# Altium footprint library Passive.PcbLib: 21 footprints (part 1 of 2)
Each footprint in its own frame and in the unit in brackets; x right, y up, seen from the top. Pads: shape width x height; smd on the part's side, far side on the other; paste and mask are expansions set on the pad; w line width, h text height; cw(c..) or ccw(c..) is an arc to the next point about the centre after c.
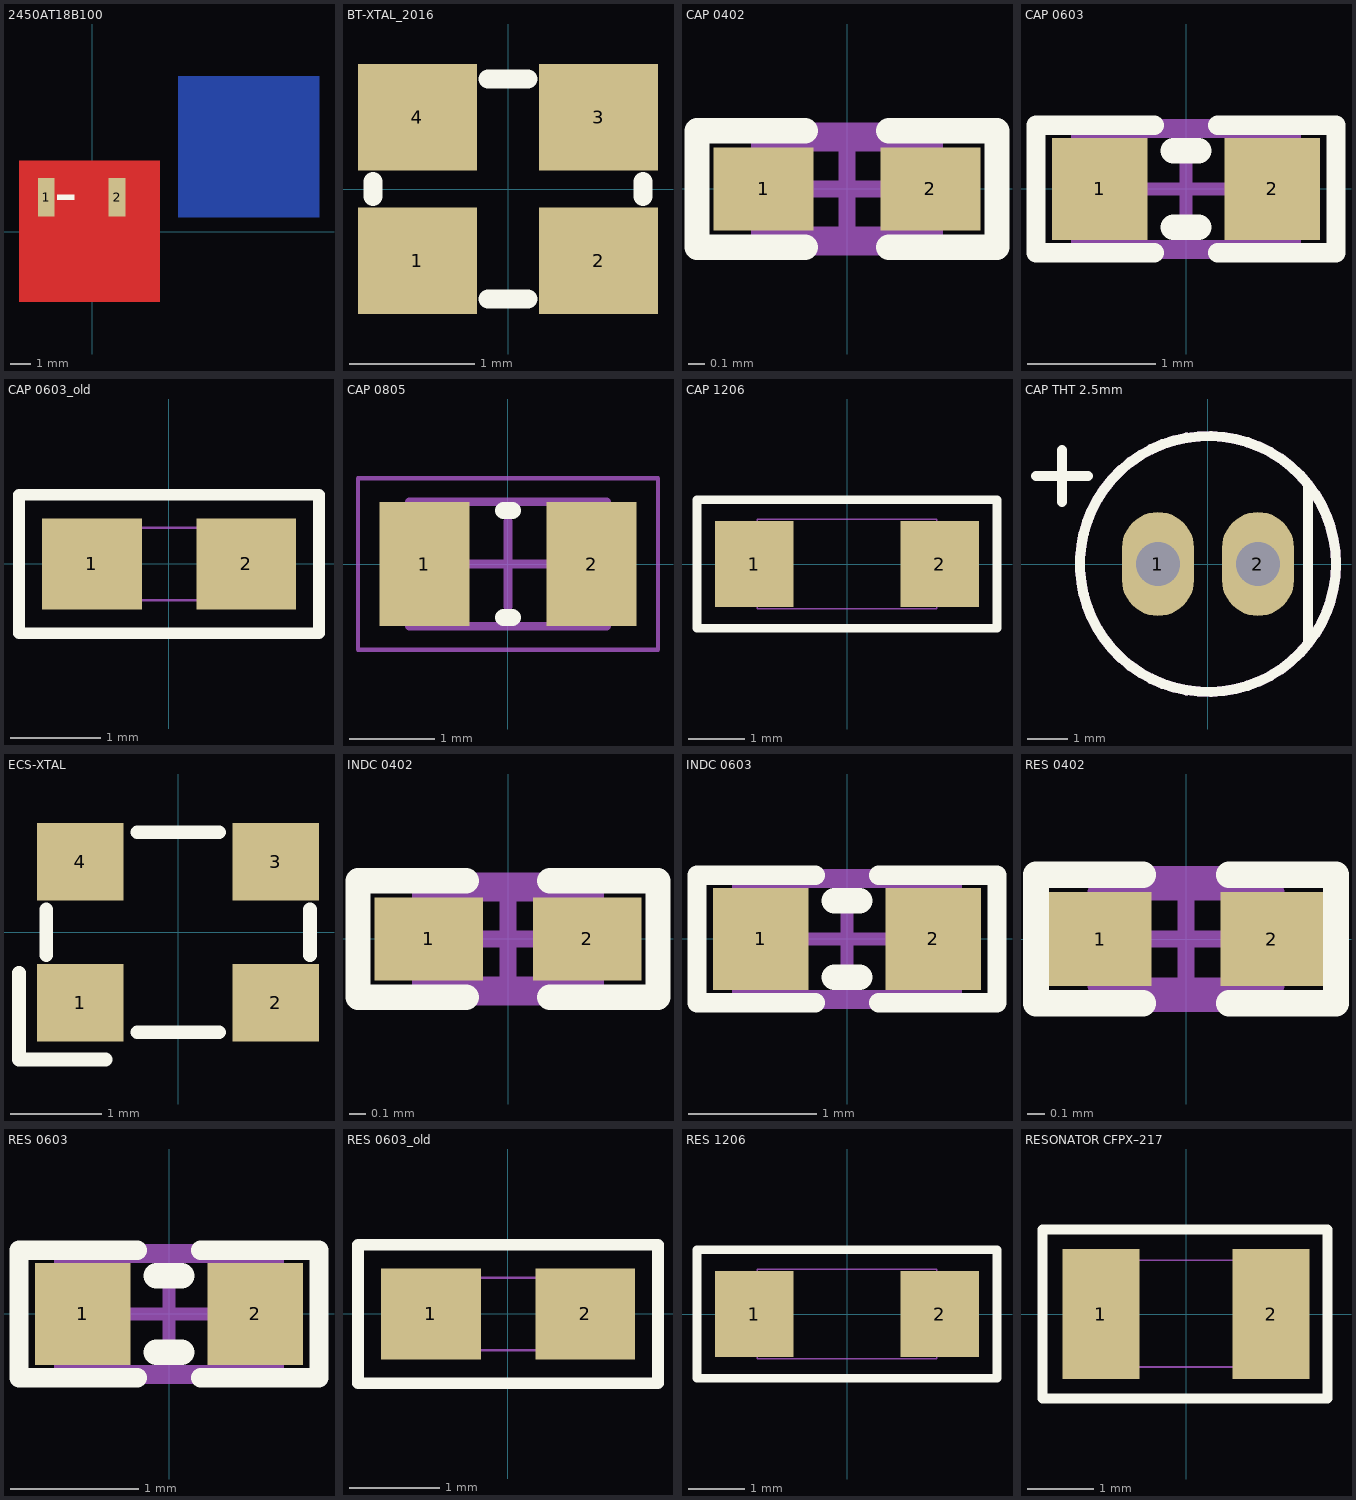
[diagram p0: the footprints below, top view; thin cyan lines are the x and y axes]

## 2450AT18B100 [mm] "2450MHz Antenna"
height 1.4
pads (2):
  rect 0.8x1.85 smd: 1(-2.2,1.65) 2(1.2,1.65)
Top Layer:
  pour cut-out: -3.5,-3.35 -3.5,3.4 3.25,3.4 3.25,-3.35
Bottom Layer:
  pour cut-out: 4.125,0.7 4.125,7.45 10.875,7.45 10.875,0.7
Top Overlay:
  region: -0.845,1.515 -0.845,1.785 -1.685,1.785 -1.685,1.515
Mechanical 7:
  lines w0.1: -1.629,0.88 0.629,0.88 ; -1.629,2.42 0.629,2.42 ; -2.1,0.95 ccw(c-2,0.95) -2,0.85 -1.7,0.85 ccw(c-1.7,0.95) -1.6,0.95 -1.6,2.35 ccw(c-1.7,2.35) -1.7,2.45 -2,2.45 ccw(c-2,2.35) -2.1,2.35 -2.1,0.95 ; 0.6,0.95 ccw(c0.7,0.95) 0.7,0.85 1,0.85 ccw(c1,0.95) 1.1,0.95 1.1,2.35 ccw(c1,2.35) 1,2.45 0.7,2.45 ccw(c0.7,2.35) 0.6,2.35 0.6,0.95
Mechanical 15:
  lines w0.1: -1,1.65 0,1.65 ; -0.5,1.15 -0.5,2.15 ; -2.85,0.475 -2.85,2.825 1.85,2.825 1.85,0.475 -2.85,0.475
3D body: height 1.4, standoff 0, extent -2.2,0.75 1.2,2.55

## BT-XTAL_2016 [mm] "Crystal 2.0 x 1.6 mm"
height 0.5
pads (4):
  rect 0.95x0.85 smd: 1(-0.725,-0.575) 2(0.725,-0.575) 3(0.725,0.575) 4(-0.725,0.575)
Top Overlay:
  lines w0.152: -1.08,-0.06 -1.08,0.06 ; -0.16,-0.88 0.16,-0.88 ; -0.16,0.88 0.16,0.88 ; 1.08,-0.06 1.08,0.06
3D body: height 0.56, standoff 0.15, extent -0.7,-0.65 0.7,0.65
3D body "User Library-GeyerElectronics_KX5.step": height 0.56, standoff 0, extent -1.05,-0.85 1.05,0.85

## CAP 0402 [mm] "Chip Capacitor, 2-Leads, Body 1.0x0.5mm, IPC High Density"
height 0.4
pads (2):
  rect 0.6x0.5 smd: 1(-0.5,0) 2(0.5,0)
Top Overlay:
  lines w0.152: -0.25,-0.35 -0.9,-0.35 -0.9,0.35 -0.25,0.35 ; 0.25,-0.35 0.9,-0.35 0.9,0.35 0.25,0.35
Mechanical 13:
  lines w0.1: -0.525,-0.275 -0.525,0.275 0.525,0.275 0.525,-0.275 -0.525,-0.275
Mechanical 15:
  lines w0.1: -0.275,0 0.275,0 ; 0,-0.275 0,0.275 ; -0.9,-0.35 0.9,-0.35 0.9,0.35 -0.9,0.35 -0.9,-0.35
3D body "User Library-0402(1005M) Cap.step": height 0.5, standoff -0.01, extent -0.508,-0.254 0.508,0.254

## CAP 0603 [mm] "Chip Capacitor, 2-Leads, Body 1.6x0.8mm, IPC High Density"
height 0.55
pads (2):
  rect 0.75x0.8 smd: 1(-0.675,0) 2(0.675,0)
Top Overlay:
  lines w0.152: -0.25,-0.5 -1.175,-0.5 -1.175,0.5 -0.25,0.5 ; 0.25,-0.5 1.175,-0.5 1.175,0.5 0.25,0.5
  lines w0.2: -0.1,-0.3 0.1,-0.3 ; -0.1,0.3 0.1,0.3
Mechanical 13:
  lines w0.1: -0.85,-0.45 0.85,-0.45 0.85,0.45 -0.85,0.45 -0.85,-0.45
Mechanical 15:
  lines w0.1: -0.45,0 0.45,0 ; 0,-0.45 0,0.45 ; -1.175,-0.5 -1.175,0.5 1.175,0.5 1.175,-0.5 -1.175,-0.5
3D body "User Library-Chip Capacitor 0603.step": height 0.8, standoff 0, extent -0.8,-0.43 0.8,0.43

## CAP 0603_old [mm] "Chip Capacitor, 2-Leads"
height 0.8
pads (2):
  rect 1.1x1 smd: 1(-0.85,0) 2(0.85,0)
Top Overlay:
  lines w0.127: -1.651,-0.762 -1.651,0.762 1.651,0.762 1.651,-0.762 -1.651,-0.762
Mechanical 13:
  lines w0.025: -0.8,-0.4 -0.8,0.4 0.8,0.4 0.8,-0.4 -0.8,-0.4
3D body: height 0.8, standoff 0, extent -0.5,-0.4 0.5,0.4
3D body: height 0.8, standoff 0, extent -0.8,-0.4 -0.5,0.4
3D body: height 0.8, standoff 0, extent 0.5,-0.4 0.8,0.4

## CAP 0805 [mm]
height 0.8
pads (2):
  rect 1.05x1.45 smd: 1(-0.975,0) 2(0.975,0)
Top Overlay:
  lines w0.2: -0.05,-0.625 0.05,-0.625 ; -0.05,0.625 0.05,0.625
Top Assembly:
  lines w0.1: -1.15,-0.725 1.15,-0.725 1.15,0.725 -1.15,0.725 -1.15,-0.725
Top Courtyard:
  lines w0.05: -1.75,-1 1.75,-1 1.75,1 -1.75,1 -1.75,-1
  lines w0.1: -0.5,0 0.5,0 ; 0,-0.5 0,0.5
3D body: height 0.8, standoff 0, extent 0.8,-0.725 1.15,0.725
3D body: height 0.8, standoff 0, extent -1.15,-0.725 -0.8,0.725
3D body: height 0.8, standoff 0, extent -0.8,-0.725 0.8,0.725

## CAP 1206 [mil] "Chip Capacitor, 2-Leads"
height 39.37
pads (2):
  rect 55x60 smd: 1(-65,0) 2(65,0)
Top Overlay:
  lines w6: -105,-45 -105,45 105,45 105,-45 -105,-45
Mechanical 13:
  lines w1: -62.99,-31.5 62.99,-31.5 62.99,31.5 -62.99,31.5 -62.99,-31.5
3D body: height 39.37, standoff 0, extent -47.24,-31.5 43.31,31.5
3D body: height 39.37, standoff 0, extent -62.99,-31.5 -47.24,31.5
3D body: height 39.37, standoff 0, extent 43.31,-31.5 62.99,31.5

## CAP THT 2.5mm [mm] "THT Capacitor, polarised, pitch 2.5mm"
pads (2):
  oval 1.8x2.6 hole 1.1: 1(-1.25,0) 2(1.25,0)
Top Overlay:
  circle w0.254: c0,0 r3.2
  lines w0.254: -4.3,2.2 -3,2.2 ; -3.65,1.55 -3.65,2.85 ; 2.5,-1.95 2.5,1.95
Mechanical 13:
  circle w0.254: c0,0 r3.2
3D body: height 0.5, standoff -2.5, extent -1.647,-0.399 -0.85,0.399
3D body: height 0.5, standoff -2.5, extent 0.853,-0.399 1.65,0.399
3D body: height 13, standoff 0.5, extent -3.2,-3.197 3.2,3.197
3D body: height 0.25, standoff 0, extent 0,0 0,0

## ECS-XTAL [mm] "Crystal 3.2 x 2.5 mm"
height 0.5
pads (4):
  rect 0.95x0.85 smd: 1(-1.075,-0.775) 2(1.075,-0.775) 3(1.075,0.775) 4(-1.075,0.775)
Top Overlay:
  lines w0.152: -1.75,-0.45 -1.75,-1.4 -0.8,-1.4 ; -1.45,-0.25 -1.45,0.25 ; -0.45,-1.1 0.45,-1.1 ; -0.45,1.1 0.45,1.1 ; 1.45,-0.25 1.45,0.25
3D body: height 0.56, standoff 0.15, extent -0.7,-0.65 0.7,0.65
3D body "User Library-GeyerElectronics_KX5.step": height 0.56, standoff 0, extent -1.05,-0.85 1.05,0.85

## INDC 0402 [mm] "Chip Inductor, 2-Leads, Body 1.0x0.5mm, IPC High Density"
height 0.4
pads (2):
  rect 0.65x0.5 smd: 1(-0.475,0) 2(0.475,0)
Top Overlay:
  lines w0.152: -0.25,-0.35 -0.9,-0.35 -0.9,0.35 -0.25,0.35 ; 0.25,-0.35 0.9,-0.35 0.9,0.35 0.25,0.35
Mechanical 13:
  lines w0.1: -0.525,-0.275 0.525,-0.275 0.525,0.275 -0.525,0.275 -0.525,-0.275
Mechanical 15:
  lines w0.1: -0.275,0 0.275,0 ; 0,-0.275 0,0.275 ; -0.9,-0.35 0.9,-0.35 0.9,0.35 -0.9,0.35 -0.9,-0.35
3D body "User Library-Chip Inductor 0402.step": height 0.5, standoff 0, extent -0.5,-0.3 0.5,0.3

## INDC 0603 [mm] "Chip Inductor, 2-Leads, Body 1.6x0.8mm, IPC High Density"
height 0.55
pads (2):
  rect 0.75x0.8 smd: 1(-0.675,0) 2(0.675,0)
Top Overlay:
  lines w0.152: -0.25,-0.5 -1.175,-0.5 -1.175,0.5 -0.25,0.5 ; 0.25,-0.5 1.175,-0.5 1.175,0.5 0.25,0.5
  lines w0.2: -0.1,-0.3 0.1,-0.3 ; -0.1,0.3 0.1,0.3
Mechanical 13:
  lines w0.1: -0.85,-0.45 0.85,-0.45 0.85,0.45 -0.85,0.45 -0.85,-0.45
Mechanical 15:
  lines w0.1: -0.45,0 0.45,0 ; 0,-0.45 0,0.45 ; -1.175,-0.5 -1.175,0.5 1.175,0.5 1.175,-0.5 -1.175,-0.5
3D body "User Library-Chip Inductor.step": height 0.8, standoff 0, extent -0.8,-0.475 0.8,0.475

## RES 0402 [mm] "Chip Resistor, 2-Leads, Body 1.0x0.5mm, IPC High Density"
height 0.4
pads (2):
  rect 0.6x0.55 smd: 1(-0.5,0) 2(0.5,0)
Top Overlay:
  lines w0.152: -0.25,-0.375 -0.875,-0.375 -0.875,0.375 -0.25,0.375 ; 0.25,-0.375 0.875,-0.375 0.875,0.375 0.25,0.375
Mechanical 13:
  lines w0.1: -0.525,-0.275 0.525,-0.275 0.525,0.275 -0.525,0.275 -0.525,-0.275
Mechanical 15:
  lines w0.1: -0.275,0 0.275,0 ; 0,-0.275 0,0.275 ; -0.875,-0.375 -0.875,0.375 0.875,0.375 0.875,-0.375 -0.875,-0.375
3D body "User Library-res0402-1.step": height 0.3, standoff 0, extent -0.5,-0.25 0.5,0.25

## RES 0603 [mm] "Chip Resistor, 2-Leads, Body 1.6x0.8mm, IPC High Density"
height 0.55
pads (2):
  rect 0.75x0.8 smd: 1(-0.675,0) 2(0.675,0)
Top Overlay:
  lines w0.152: -0.25,-0.5 -1.175,-0.5 -1.175,0.5 -0.25,0.5 ; 0.25,-0.5 1.175,-0.5 1.175,0.5 0.25,0.5
  lines w0.2: -0.1,-0.3 0.1,-0.3 ; -0.1,0.3 0.1,0.3
Mechanical 13:
  lines w0.1: -0.85,-0.45 0.85,-0.45 0.85,0.45 -0.85,0.45 -0.85,-0.45
Mechanical 15:
  lines w0.1: -0.45,0 0.45,0 ; 0,-0.45 0,0.45 ; -1.175,-0.5 -1.175,0.5 1.175,0.5 1.175,-0.5 -1.175,-0.5
3D body "User Library-Chip Capacitor 0603.step": height 0.8, standoff 0, extent -0.8,-0.43 0.8,0.43

## RES 0603_old [mm] "Chip Resistor, 2-Leads"
height 0.45
pads (2):
  rect 1.1x1 smd: 1(-0.85,0) 2(0.85,0)
Top Overlay:
  lines w0.127: -1.651,-0.762 -1.651,0.762 1.651,0.762 1.651,-0.762 -1.651,-0.762
Mechanical 13:
  lines w0.025: -0.8,-0.4 -0.8,0.4 0.8,0.4 0.8,-0.4 -0.8,-0.4
3D body: height 0.35, standoff 0, extent -0.8,-0.4 -0.5,0.4
3D body: height 0.35, standoff 0, extent 0.5,-0.4 0.8,0.4
3D body: height 0.35, standoff 0, extent -0.5,-0.4 0.5,0.4

## RES 1206 [mil] "Chip Resistor, 2-Leads"
height 17.72
pads (2):
  rect 55x60 smd: 1(-65,0) 2(65,0)
Top Overlay:
  lines w6: -105,-45 105,-45 105,45 -105,45 -105,-45
Mechanical 13:
  lines w1: -62.99,-31.5 -62.99,31.5 62.99,31.5 62.99,-31.5 -62.99,-31.5
3D body: height 21.65, standoff 0, extent 43.31,-31.5 62.99,31.5
3D body: height 21.65, standoff 0, extent -62.99,-31.5 -47.24,31.5
3D body: height 21.65, standoff 0, extent -47.24,-31.5 43.31,31.5

## RESONATOR CFPX–217 [mm] "RESONATOR, CFPX–217, 32k"
height 0.45
pads (2):
  rect 1.15x1.95 smd: 1(-1.275,0) 2(1.275,0)
Top Overlay:
  lines w0.152: -2.15,-1.27 2.125,-1.27 2.125,1.27 1.079,1.27 -2.15,1.27 -2.15,-1.27
Mechanical 13:
  lines w0.025: -1.578,-0.796 -1.578,0.804 1.622,0.804 1.622,-0.796 -1.578,-0.796
3D body: height 0.55, standoff 0, extent -1.575,-0.796 1.625,0.804